# Altium integrated library Library.IntLib: 629 symbols (part 19 of 21)
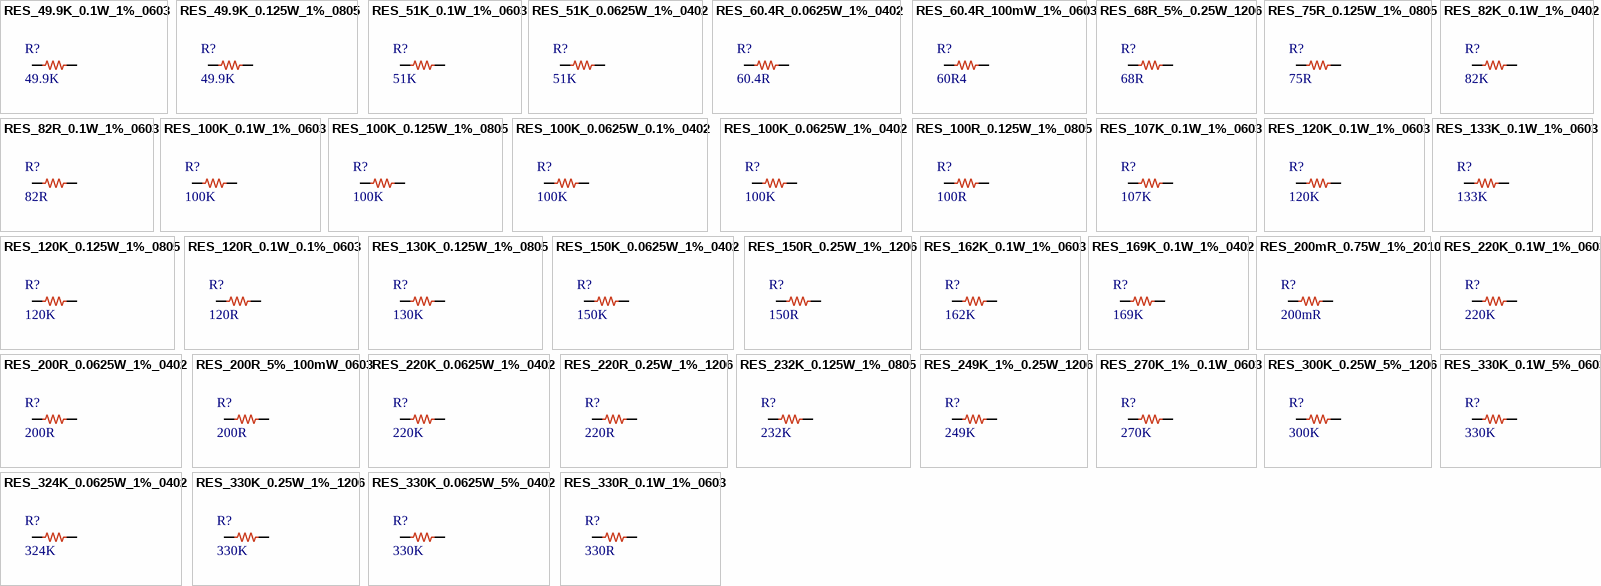
[diagram p36: symbols RES_49.9K_0.1W_1%_0603 to RES_330R_0.1W_1%_0603]

## RES_133K_0.1W_1%_0603
designator R?, comment 133K
Fixed Resistor, Metal Glaze/thick Film, 0.1W, 133000ohm, 75V, 1% +/-Tol, 100ppm/Cel, Surface Mount, 0603; Manufacturer: Yageo; Manufacturer Part Number: RC0603FR-07133KL; Additional Feature: LASER TRIMMABLE; Power: 100mW; Rated Temperature: 70°C; Value: 133kR; Temperature Coefficient: 100ppm/°C; Package Height: 0.45mm; Package Length: 1.6mm; Package Width: 0.8mm; Supplier: Digikey; Supplier Part Number: 311-133KHRCT-ND; RoHS: Yes; Category: Chip SMD Resistors; Stock: 227173; Pricing: 1=0.1, 10=0.02, 50=0.0118, 100=0.0098, 500=0.00656, 1000=0.0056 (USD); Mounting Technology: Surface Mount; Pins: 2; Package Shape: Rectangular; Case/Package: 0603; Terminal Finish: Nickel; Min Operating Temperature: -55°C; Max Operating Temperature: 155°C; Tolerance: 1%; JESD-609 Code: e3; Resistor Type: FIXED RESISTOR; Construction: Chip; Package Style: SMTMeter; Packaging: Tape and Reel; Technology: METAL GLAZE/THICK FILM; Termination: Wraparound; Working Voltage: 75V; Reach SVHC Compliant: Yes; RoHS Compliant: Yes; ComponentLink1URL: https://datasheet.ciiva.com:443/pdfs/VipMasterIC/IC/YAGO/YAGO-S-A0008145938/YAGO-S-A0008145938-1.pdf?src-supplier=IHS+Markit; ComponentLink1Description: https://datasheet.ciiva.com:443/pdfs/VipMasterIC/IC/YAGO/YAGO-S-A0008145938/YAGO-S-A0008145938-1.pdf?src-supplier=IHS+Markit; ComponentLink2URL: https://datasheet.ciiva.com/12558/rc0603-272842-12558909.pdf?src-supplier=Mouser; ComponentLink2Description: https://datasheet.ciiva.com/12558/rc0603-272842-12558909.pdf?src-supplier=Mouser; ComponentLink3URL: https://datasheet.ciiva.com/2491/pyu-r-int-thick-7-2491337.pdf?src-supplier=Digikey; ComponentLink3Description: https://datasheet.ciiva.com/2491/pyu-r-int-thick-7-2491337.pdf?src-supplier=Digikey; ComponentLink4URL: https://datasheet.ciiva.com/2491/pyu-r-int-thick-7-2491338.pdf?src-supplier=Digikey; ComponentLink4Description: https://datasheet.ciiva.com/2491/pyu-r-int-thick-7-2491338.pdf?src-supplier=Digikey; ComponentLink5URL: https://datasheet.ciiva.com/2491/pyu-r-int-thick-7-2491336.pdf?src-supplier=Digikey; ComponentLink5Description: https://datasheet.ciiva.com/2491/pyu-r-int-thick-7-2491336.pdf?src-supplier=Digikey
footprint RES_0603
pins: 1, 2

## RES_150K_0.0625W_1%_0402
designator R?, comment 150K
Fixed Resistor, Metal Glaze/thick Film, 0.0625W, 150000ohm, 50V, 1% +/-Tol, 100ppm/Cel, Surface Mount, 0402; Manufacturer: Yageo; Manufacturer Part Number: RC0402FR-07150KL; Additional Feature: LASER TRIMMABLE; Power: 62.5mW; Rated Temperature: 70°C; Value: 150kR; Temperature Coefficient (ppm/Cel): 100; Package Height: 0.35mm; Package Length: 1mm; Package Width: 0.5mm; Supplier: Rs; Supplier Part Number: 1987665; RoHS: Yes; Category: Chip SMD Resistors; Stock: 18700; Pricing: 100=0.005, 1000=0.004, 2500=0.004, 5000=0.004, 10000=0.004 (EUR); Mounting Technology: Surface Mount; Pins: 2; Package Shape: Rectangular; Case/Package: 0402; Terminal Finish: Nickel; Min Operating Temperature: -55°C; Max Operating Temperature: 155°C; Tolerance: 1%; JESD-609 Code: e3; Resistor Type: FIXED RESISTOR; Construction: Chip; Packaging: Tape and Reel; Technology: METAL GLAZE/THICK FILM; Termination: Wraparound; Working Voltage: 50V; Reach SVHC Compliant: Yes; RoHS Compliant: Yes; ComponentLink1URL: https://datasheet.ciiva.com:443/pdfs/VipMasterIC/IC/YAGO/YAGO-S-A0008145938/YAGO-S-A0008145938-1.pdf?src-supplier=IHS+Markit; ComponentLink1Description: https://datasheet.ciiva.com:443/pdfs/VipMasterIC/IC/YAGO/YAGO-S-A0008145938/YAGO-S-A0008145938-1.pdf?src-supplier=IHS+Markit; ComponentLink2URL: https://datasheet.ciiva.com/2453/pyu-r-int-thick-7-2453603.pdf?src-supplier=Digikey; ComponentLink2Description: https://datasheet.ciiva.com/2453/pyu-r-int-thick-7-2453603.pdf?src-supplier=Digikey; ComponentLink3URL: https://datasheet.ciiva.com/2453/pyu-r-int-thick-7-2453601.pdf?src-supplier=Digikey; ComponentLink3Description: https://datasheet.ciiva.com/2453/pyu-r-int-thick-7-2453601.pdf?src-supplier=Digikey; ComponentLink4URL: https://datasheet.ciiva.com/7849/1018594-7849836.pdf?src-supplier=Element14; ComponentLink4Description: https://datasheet.ciiva.com/7849/1018594-7849836.pdf?src-supplier=Element14; ComponentLink5URL: https://datasheet.ciiva.com/6067/1686128-6067913.pdf?src-supplier=Farnell; ComponentLink5Description: https://datasheet.ciiva.com/6067/1686128-6067913.pdf?src-supplier=Farnell; ComponentLink6URL: https://datasheet.ciiva.com/7983/1018594-7983494.pdf?src-supplier=Element14; ComponentLink6Description: https://datasheet.ciiva.com/7983/1018594-7983494.pdf?src-supplier=Element14
footprint RES_0402
pins: 1, 2

## RES_150R_0.25W_1%_1206
designator R?, comment 150R
Fixed Resistor, Metal Glaze/thick Film, 0.25W, 150ohm, 200V, 1% +/-Tol, 100ppm/Cel, Surface Mount, 1206; Manufacturer: Yageo; Manufacturer Part Number: RC1206FR-07150RL; Additional Feature: LASER TRIMMABLE; Power: 250mW; Rated Temperature: 70°C; Temperature Coefficient (ppm/Cel): 100; Package Height: 0.55mm; Package Length: 3.1mm; Package Width: 1.6mm; Supplier: Farnell; Supplier Part Number: 9240896; RoHS: Yes; Category: Chip SMD Resistors; Stock: 160466; Pricing: 10=0.0149, 100=0.0125, 500=0.0111, 1000=0.0097, 2500=0.0095 (EUR); Mounting Technology: Surface Mount; Pins: 2; Package Shape: Rectangular; Case/Package: 1206; Terminal Finish: Nickel; Min Operating Temperature: -55°C; Max Operating Temperature: 155°C; Tolerance: 1%; JESD-609 Code: e3; Resistor Type: FIXED RESISTOR; Construction: Chip; Packaging: Tape and Reel; Value: 150R; Technology: METAL GLAZE/THICK FILM; Termination: Wraparound; Working Voltage: 200V; Reach SVHC Compliant: Yes; RoHS Compliant: Yes; ComponentLink1URL: https://datasheet.ciiva.com:443/pdfs/VipMasterIC/IC/YAGO/YAGO-S-A0008145938/YAGO-S-A0008145938-1.pdf?src-supplier=IHS+Markit; ComponentLink1Description: https://datasheet.ciiva.com:443/pdfs/VipMasterIC/IC/YAGO/YAGO-S-A0008145938/YAGO-S-A0008145938-1.pdf?src-supplier=IHS+Markit; ComponentLink2URL: https://datasheet.ciiva.com/7857/444357-7857261.pdf?src-supplier=Element14; ComponentLink2Description: https://datasheet.ciiva.com/7857/444357-7857261.pdf?src-supplier=Element14; ComponentLink3URL: https://datasheet.ciiva.com/7857/444357-7857260.pdf?src-supplier=Element14; ComponentLink3Description: https://datasheet.ciiva.com/7857/444357-7857260.pdf?src-supplier=Element14
footprint RES_1206
pins: 1, 2

## RES_162K_0.1W_1%_0603
designator R?, comment 162K
Fixed Resistor, Metal Glaze/thick Film, 0.1W, 162000ohm, 75V, 1% +/-Tol, 100ppm/Cel, Surface Mount, 0603; Manufacturer: Yageo; Manufacturer Part Number: RC0603FR-07162KL; Additional Feature: LASER TRIMMABLE; Power: 100mW; Rated Temperature: 70°C; Value: 162kR; Temperature Coefficient: 100ppm/°C; Package Height: 0.45mm; Package Length: 1.6mm; Package Width: 0.8mm; Supplier: Digikey; Supplier Part Number: 311-162KHRCT-ND; RoHS: Yes; Category: Chip SMD Resistors; Stock: 110580; Pricing: 1=0.1, 10=0.019, 50=0.0112, 100=0.0093, 500=0.00622, 1000=0.00532 (USD); Mounting Technology: Surface Mount; Pins: 2; Package Shape: Rectangular; Case/Package: 0603; Terminal Finish: Nickel; Min Operating Temperature: -55°C; Max Operating Temperature: 155°C; Tolerance: 1%; JESD-609 Code: e3; Resistor Type: FIXED RESISTOR; Construction: Chip; Package Style: SMTMeter; Packaging: Tape and Reel; Technology: METAL GLAZE/THICK FILM; Termination: Wraparound; Working Voltage: 75V; Reach SVHC Compliant: Yes; RoHS Compliant: Yes; ComponentLink1URL: https://datasheet.ciiva.com:443/pdfs/VipMasterIC/IC/YAGO/YAGO-S-A0008145938/YAGO-S-A0008145938-1.pdf?src-supplier=IHS+Markit; ComponentLink1Description: https://datasheet.ciiva.com:443/pdfs/VipMasterIC/IC/YAGO/YAGO-S-A0008145938/YAGO-S-A0008145938-1.pdf?src-supplier=IHS+Markit; ComponentLink2URL: https://datasheet.ciiva.com/11819/0900766b80f96399-11819240.pdf?src-supplier=Rs; ComponentLink2Description: https://datasheet.ciiva.com/11819/0900766b80f96399-11819240.pdf?src-supplier=Rs
footprint RES_0603
pins: 1, 2

## RES_169K_0.1W_1%_0402
designator R?, comment 169K
Fixed Resistor, Metal Glaze/thick Film, 0.1W, 169000ohm, 50V, 1% +/-Tol, 100ppm/Cel, Surface Mount, 0402; Manufacturer: Panasonic; Manufacturer Part Number: ERJ-2RKF1693X; Power: 100mW; Rated Temperature: 70°C; Value: 169kR; Temperature Coefficient (ppm/Cel): 100; Package Height: 0.35mm; Package Length: 1mm; Package Width: 0.5mm; Reference Standard: AEC-Q200; Supplier: Mouser; Supplier Part Number: 667-ERJ-2RKF1693X; RoHS: Yes; Category: Chip SMD Resistors; Stock: 6084; Pricing: 1=0.1, 10=0.023, 50=0.023, 100=0.013, 1000=0.008, 10000=0.005 (USD); Mounting Technology: Surface Mount; Pins: 2; Package Shape: Rectangular; Case/Package: 0402; Terminal Finish: Nickel; Min Operating Temperature: -55°C; Max Operating Temperature: 155°C; Tolerance: 1%; JESD-609 Code: e3; Resistor Type: FIXED RESISTOR; Construction: Rectangular; Packaging: Tape and Reel; Technology: METAL GLAZE/THICK FILM; Termination: Wraparound; Working Voltage: 50V; Reach SVHC Compliant: Yes; RoHS Compliant: Yes; ComponentLink1URL: https://datasheet.ciiva.com:443/pdfs/VipMasterIC/IC/PANA/PANA-S-A0009889626/PANA-S-A0009889626-1.pdf?src-supplier=IHS+Markit; ComponentLink1Description: https://datasheet.ciiva.com:443/pdfs/VipMasterIC/IC/PANA/PANA-S-A0009889626/PANA-S-A0009889626-1.pdf?src-supplier=IHS+Markit; ComponentLink2URL: https://datasheet.ciiva.com/9119/aoa0000ce2-9119289.pdf?src-supplier=Avnet; ComponentLink2Description: https://datasheet.ciiva.com/9119/aoa0000ce2-9119289.pdf?src-supplier=Avnet; ComponentLink3URL: https://datasheet.ciiva.com/30152/aoa0000ce2-30152779.pdf?src-supplier=Onlinecomponents.com; ComponentLink3Description: https://datasheet.ciiva.com/30152/aoa0000ce2-30152779.pdf?src-supplier=Onlinecomponents.com; ComponentLink4URL: https://datasheet.ciiva.com/16781/70260748-16781358.pdf?src-supplier=Allied+Electronics; ComponentLink4Description: https://datasheet.ciiva.com/16781/70260748-16781358.pdf?src-supplier=Allied+Electronics; ComponentLink5URL: https://datasheet.ciiva.com/46388/426256-46388938.pdf?src-supplier=Element14; ComponentLink5Description: https://datasheet.ciiva.com/46388/426256-46388938.pdf?src-supplier=Element14; ComponentLink6URL: https://datasheet.ciiva.com/46377/426256-46377711.pdf?src-supplier=Element14; ComponentLink6Description: https://datasheet.ciiva.com/46377/426256-46377711.pdf?src-supplier=Element14; ComponentLink7URL: https://datasheet.ciiva.com/24071/aoa0000ce2-24071718.pdf?src-supplier=Mouser; ComponentLink7Description: https://datasheet.ciiva.com/24071/aoa0000ce2-24071718.pdf?src-supplier=Mouser; ComponentLink8URL: https://datasheet.ciiva.com/43460/426256-43460342.pdf?src-supplier=Farnell; ComponentLink8Description: https://datasheet.ciiva.com/43460/426256-43460342.pdf?src-supplier=Farnell; ComponentLink9URL: https://datasheet.ciiva.com/5951/426256-5951318.pdf?src-supplier=Farnell; ComponentLink9Description: https://datasheet.ciiva.com/5951/426256-5951318.pdf?src-supplier=Farnell
footprint RES_0402
pins: 1, 2

## RES_200mR_0.75W_1%_2010
designator R?, comment 200mR
Fixed Resistor, Metal Glaze/thick Film, 0.75W, 0.2ohm, 0.387V, 1% +/-Tol, 75ppm/Cel, Surface Mount, 2010; Manufacturer: Yageo; Manufacturer Part Number: PT2010FK-070R2L; Supplier: Mouser; Supplier Part Number: 603-PT2010FK-070R2L; RoHS: Yes; Category: Chip SMD Resistors; Stock: 10779; Pricing: 1=0.59, 10=0.258, 50=0.258, 100=0.139, 1000=0.106, 10000=0.085 (USD); ComponentLink1URL: https://datasheet.ciiva.com:443/pdfs/VipMasterIC/IC/YAGO/YAGO-S-A0005429913/YAGO-S-A0005429913-1.pdf?src-supplier=IHS+Markit; ComponentLink1Description: https://datasheet.ciiva.com:443/pdfs/VipMasterIC/IC/YAGO/YAGO-S-A0005429913/YAGO-S-A0005429913-1.pdf?src-supplier=IHS+Markit; ComponentLink2URL: http://www.mouser.com/ds/2/447/yageodocoutput-1101729.pdf?src-supplier=Mouser; ComponentLink2Description: http://www.mouser.com/ds/2/447/yageodocoutput-1101729.pdf?src-supplier=Mouser; ComponentLink3URL: http://www.yageo.com/documents/recent/PYu-PT-Group_521_RoHS_L-1.pdf?src-supplier=Digikey; ComponentLink3Description: http://www.yageo.com/documents/recent/PYu-PT-Group_521_RoHS_L-1.pdf?src-supplier=Digikey
footprint RES_2010
pins: 1, 2

## RES_200R_0.0625W_1%_0402
designator R?, comment 200R
Fixed Resistor, Metal Glaze/thick Film, 0.0625W, 200ohm, 50V, 5% +/-Tol, 100ppm/Cel, Surface Mount, 0402; Manufacturer: Yageo; Manufacturer Part Number: AF0402JR-07200RL; Additional Feature: ANTI-SULFUR; Power: 62.5mW; Rated Temperature: 70°C; Temperature Coefficient: 100ppm/°C; Package Height: 0.32mm; Package Length: 1mm; Package Width: 0.5mm; Reference Standard: AEC-Q200; Supplier: Future Electronics; Supplier Part Number: 2164590; RoHS: Yes; Category: Chip SMD Resistors; Stock: 10000; Pricing: 10000=0.0014, 50000=0.0013, 200000=0.0012, 500000=0.0012, 1250000=0.0011 (USD); Mounting Technology: Surface Mount; Pins: 2; Case/Package: 0402; Min Operating Temperature: -55°C; Max Operating Temperature: 155°C; Tolerance: 5%; Resistor Type: FIXED RESISTOR; Construction: Rectangular; Package Style: SMTMeter; Packaging: Tape and Reel; Value: 200R; Termination: Wraparound; Working Voltage: 50V; Reach SVHC Compliant: Yes; RoHS Compliant: Yes; ComponentLink1URL: https://datasheet.ciiva.com:443/pdfs/VipMasterIC/IC/YAGO/YAGO-S-A0009016998/YAGO-S-A0009016998-1.pdf?src-supplier=IHS+Markit; ComponentLink1Description: https://datasheet.ciiva.com:443/pdfs/VipMasterIC/IC/YAGO/YAGO-S-A0009016998/YAGO-S-A0009016998-1.pdf?src-supplier=IHS+Markit; ComponentLink2URL: http://www.yageo.com/documents/recent/PYu-AF_51_RoHS_L_5.pdf?src-supplier=Digikey; ComponentLink2Description: http://www.yageo.com/documents/recent/PYu-AF_51_RoHS_L_5.pdf?src-supplier=Digikey
footprint RES_0402
pins: 1, 2

## RES_200R_5%_100mW_0603
designator R?, comment 200R
Anti-Sulfurated Chip Resistor Thick Film 0603 200Ohm 5% Paper T/R; Manufacturer: Yageo; Manufacturer Part Number: AF0603JR-07200RL; Max Power Dissipation: 100mW; Temperature Coefficient: 100ppm/°C; Supplier 1: Digi-Key; RoHS: Yes; Category: Chip SMD Resistors; Stock 1: 4765; Pricing 1: 1=0.1, 10=0.023, 50=0.0146, 100=0.0122, 500=0.00832, 1000=0.00718 (USD); Case/Package: 0603; Min Operating Temperature: -55°C; Max Operating Temperature: 155°C; Packaging: Tape and Reel; Resistance: 200R; Number of Terminations: 2; Tolerance: 5%; Features: Moisture Resistant,Anti-Sulfur; Series: AF; Length: 0.063inch; Width: 0.031inch; Height: 0.022inch; RoHS Compliant: Yes; ComponentLink1URL: http://www.yageo.com/documents/recent/PYu-AF_51_RoHS_L_5.pdf?src-supplier=Digi-Key; ComponentLink1Description: http://www.yageo.com/documents/recent/PYu-AF_51_RoHS_L_5.pdf?src-supplier=Digi-Key; Supplier Part Number 1: 13-AF0603JR-07200RLDKR-ND
footprint RES_0603
pins: 1, 2

## RES_220K_0.1W_1%_0603
designator R?, comment 220K
Fixed Resistor, Metal Glaze/thick Film, 0.1W, 220000ohm, 75V, 1% +/-Tol, 100ppm/Cel, Surface Mount, 0603; Manufacturer: Yageo; Manufacturer Part Number: RC0603FR-07220KL; Additional Feature: LASER TRIMMABLE; Power: 100mW; Rated Temperature: 70°C; Value: 220kR; Temperature Coefficient: 100ppm/°C; Package Height: 0.45mm; Package Length: 1.6mm; Package Width: 0.8mm; Supplier: Future Electronics; Supplier Part Number: 1174606; RoHS: Yes; Category: Chip SMD Resistors; Stock: 2045000; Pricing: 5000=0.0022, 75000=0.002, 100000=0.002, 250000=0.002, 375000=0.0019, 750000=0.0019, 1000000=0.0019, 2500000=0.0017, 3750000=0.0017 (USD); Mounting Technology: Surface Mount; Pins: 2; Package Shape: Rectangular; Case/Package: 0603; Terminal Finish: Nickel; Min Operating Temperature: -55°C; Max Operating Temperature: 155°C; Tolerance: 1%; JESD-609 Code: e3; Resistor Type: FIXED RESISTOR; Construction: Chip; Package Style: SMTMeter; Packaging: Tape and Reel; Technology: METAL GLAZE/THICK FILM; Termination: Wraparound; Working Voltage: 75V; Reach SVHC Compliant: Yes; RoHS Compliant: Yes; ComponentLink1URL: https://datasheet.ciiva.com:443/pdfs/VipMasterIC/IC/YAGO/YAGO-S-A0008145938/YAGO-S-A0008145938-1.pdf?src-supplier=IHS+Markit; ComponentLink1Description: https://datasheet.ciiva.com:443/pdfs/VipMasterIC/IC/YAGO/YAGO-S-A0008145938/YAGO-S-A0008145938-1.pdf?src-supplier=IHS+Markit; ComponentLink2URL: https://datasheet.ciiva.com/11808/0900766b80f96399-11808161.pdf?src-supplier=Rs; ComponentLink2Description: https://datasheet.ciiva.com/11808/0900766b80f96399-11808161.pdf?src-supplier=Rs; ComponentLink3URL: https://datasheet.ciiva.com/46412/443971-46412845.pdf?src-supplier=Element14; ComponentLink3Description: https://datasheet.ciiva.com/46412/443971-46412845.pdf?src-supplier=Element14; ComponentLink4URL: https://datasheet.ciiva.com/2453/pyu-r-int-thick-7-2453965.pdf?src-supplier=Digikey; ComponentLink4Description: https://datasheet.ciiva.com/2453/pyu-r-int-thick-7-2453965.pdf?src-supplier=Digikey; ComponentLink5URL: https://datasheet.ciiva.com/2453/pyu-r-int-thick-7-2453966.pdf?src-supplier=Digikey; ComponentLink5Description: https://datasheet.ciiva.com/2453/pyu-r-int-thick-7-2453966.pdf?src-supplier=Digikey; ComponentLink6URL: https://datasheet.ciiva.com/2453/pyu-r-int-thick-7-2453964.pdf?src-supplier=Digikey; ComponentLink6Description: https://datasheet.ciiva.com/2453/pyu-r-int-thick-7-2453964.pdf?src-supplier=Digikey; ComponentLink7URL: https://datasheet.ciiva.com/7746/443971-7746299.pdf?src-supplier=Element14; ComponentLink7Description: https://datasheet.ciiva.com/7746/443971-7746299.pdf?src-supplier=Element14; ComponentLink8URL: https://datasheet.ciiva.com/7746/443971-7746298.pdf?src-supplier=Element14; ComponentLink8Description: https://datasheet.ciiva.com/7746/443971-7746298.pdf?src-supplier=Element14
footprint RES_0603
pins: 1, 2

## RES_220K_0.0625W_1%_0402
designator R?, comment 220K
Fixed Resistor, Metal Glaze/thick Film, 0.0625W, 220000ohm, 50V, 1% +/-Tol, 100ppm/Cel, Surface Mount, 0402; Manufacturer: Yageo; Manufacturer Part Number: RC0402FR-07220KL; Additional Feature: LASER TRIMMABLE; Power: 62.5mW; Rated Temperature: 70°C; Value: 220kR; Temperature Coefficient: 100ppm/°C; Package Height: 0.35mm; Package Length: 1mm; Package Width: 0.5mm; Supplier: Future Electronics; Supplier Part Number: 3187143; RoHS: Yes; Category: Chip SMD Resistors; Stock: 40000; Pricing: 10000=0.0012, 100000=0.0011, 300000=0.001, 750000=0.001, 2000000=0.0009 (USD); Mounting Technology: Surface Mount; Pins: 2; Package Shape: Rectangular; Case/Package: 0402; Terminal Finish: Nickel; Min Operating Temperature: -55°C; Max Operating Temperature: 155°C; Tolerance: 1%; JESD-609 Code: e3; Resistor Type: FIXED RESISTOR; Packaging: Tape and Reel; Technology: METAL GLAZE/THICK FILM; Termination: Wraparound; Working Voltage: 50V; Construction: Chip; Package Style: SMTMeter; Reach SVHC Compliant: Yes; RoHS Compliant: Yes; ComponentLink1URL: https://datasheet.ciiva.com:443/pdfs/VipMasterIC/IC/YAGO/YAGO-S-A0008145938/YAGO-S-A0008145938-1.pdf?src-supplier=IHS+Markit; ComponentLink1Description: https://datasheet.ciiva.com:443/pdfs/VipMasterIC/IC/YAGO/YAGO-S-A0008145938/YAGO-S-A0008145938-1.pdf?src-supplier=IHS+Markit; ComponentLink2URL: https://datasheet.ciiva.com/5924/1018594-5924944.pdf?src-supplier=Farnell; ComponentLink2Description: https://datasheet.ciiva.com/5924/1018594-5924944.pdf?src-supplier=Farnell; ComponentLink3URL: https://datasheet.ciiva.com/11808/0900766b80c66297-11808792.pdf?src-supplier=Rs; ComponentLink3Description: https://datasheet.ciiva.com/11808/0900766b80c66297-11808792.pdf?src-supplier=Rs; ComponentLink4URL: https://datasheet.ciiva.com/2453/pyu-r-int-thick-7-2453534.pdf?src-supplier=Digikey; ComponentLink4Description: https://datasheet.ciiva.com/2453/pyu-r-int-thick-7-2453534.pdf?src-supplier=Digikey; ComponentLink5URL: https://datasheet.ciiva.com/2453/pyu-r-int-thick-7-2453532.pdf?src-supplier=Digikey; ComponentLink5Description: https://datasheet.ciiva.com/2453/pyu-r-int-thick-7-2453532.pdf?src-supplier=Digikey; ComponentLink6URL: https://datasheet.ciiva.com/12577/pyu-rc0402-51-rohs-l-6-r-12577270.pdf?src-supplier=Mouser; ComponentLink6Description: https://datasheet.ciiva.com/12577/pyu-rc0402-51-rohs-l-6-r-12577270.pdf?src-supplier=Mouser; ComponentLink7URL: https://datasheet.ciiva.com/2453/pyu-r-int-thick-7-2453533.pdf?src-supplier=Digikey; ComponentLink7Description: https://datasheet.ciiva.com/2453/pyu-r-int-thick-7-2453533.pdf?src-supplier=Digikey
footprint RES_0402
pins: 1, 2

## RES_220R_0.25W_1%_1206
designator R?, comment 220R
Fixed Resistor, Metal Glaze/thick Film, 0.25W, 220ohm, 200V, 1% +/-Tol, 100ppm/Cel, Surface Mount, 1206; Manufacturer: Stackpole Electronics; Manufacturer Part Number: RMCF1206FT220R; Power: 250mW; Rated Temperature: 70°C; Temperature Coefficient: 100ppm/°C; Package Height: 0.55mm; Package Length: 3.2mm; Package Width: 1.6mm; Reference Standard: AEC-Q200; Supplier: Digikey; Supplier Part Number: RMCF1206FT220RCT-ND; RoHS: Yes; Category: Chip SMD Resistors; Stock: 575324; Pricing: 1=0.1, 10=0.025, 50=0.0156, 100=0.0129, 500=0.0087, 1000=0.00746 (USD); Mounting Technology: Surface Mount; Pins: 2; Package Shape: Rectangular; Case/Package: 1206; Terminal Finish: Nickel; Min Operating Temperature: -55°C; Max Operating Temperature: 155°C; Tolerance: 1%; JESD-609 Code: e3; Resistor Type: FIXED RESISTOR; Construction: Rectangular; Packaging: Tape and Reel; Value: 220R; Technology: METAL GLAZE/THICK FILM; Termination: Wraparound; Working Voltage: 200V; Reach SVHC Compliant: Yes; RoHS Compliant: Yes; ComponentLink1URL: https://datasheet.ciiva.com:443/pdfs/VipMasterIC/IC/SEIE/SEIE-S-A0009541969/SEIE-S-A0009541969-1.pdf?src-supplier=IHS+Markit; ComponentLink1Description: https://datasheet.ciiva.com:443/pdfs/VipMasterIC/IC/SEIE/SEIE-S-A0009541969/SEIE-S-A0009541969-1.pdf?src-supplier=IHS+Markit; ComponentLink2URL: https://www.seielect.com/catalog/SEI-RMCF_RMCP.pdf?src-supplier=Avnet; ComponentLink2Description: https://www.seielect.com/catalog/SEI-RMCF_RMCP.pdf?src-supplier=Avnet; ComponentLink3URL: https://www.seielect.com/catalog/SEI-Packaging.pdf?src-supplier=Digikey; ComponentLink3Description: https://www.seielect.com/catalog/SEI-Packaging.pdf?src-supplier=Digikey; ComponentLink4URL: https://www.seielect.com/catalog/sei-rmcf_rmcp.pdf?src-supplier=Digikey; ComponentLink4Description: https://www.seielect.com/catalog/sei-rmcf_rmcp.pdf?src-supplier=Digikey; ComponentLink5URL: https://datasheet.octopart.com/RMCF1206FT220R-Stackpole-Electronics-datasheet-141193804.pdf?src-supplier=Future+Electronics; ComponentLink5Description: https://datasheet.octopart.com/RMCF1206FT220R-Stackpole-Electronics-datasheet-141193804.pdf?src-supplier=Future+Electronics; ComponentLink6URL: https://datasheet.octopart.com/RMCF1206FT220R-Stackpole-Electronics-datasheet-155966809.pdf?src-supplier=Master+Electronics; ComponentLink6Description: https://datasheet.octopart.com/RMCF1206FT220R-Stackpole-Electronics-datasheet-155966809.pdf?src-supplier=Master+Electronics
footprint RES_1206
pins: 1, 2

## RES_232K_0.125W_1%_0805
designator R?, comment 232K
Fixed Resistor, Metal Glaze/thick Film, 0.125W, 232000ohm, 150V, 1% +/-Tol, 100ppm/Cel, Surface Mount, 0805; Manufacturer: Yageo; Manufacturer Part Number: RC0805FR-07232KL; Additional Feature: LASER TRIMMABLE; Power: 125mW; Rated Temperature: 70°C; Value: 232kR; Temperature Coefficient: 100ppm/°C; Package Height: 0.5mm; Package Length: 2mm; Package Width: 1.25mm; Supplier: Future Electronics; Supplier Part Number: 5292982; RoHS: Yes; Category: Chip SMD Resistors; Stock: 5000; Pricing: 5000=0.0044, 25000=0.0041, 100000=0.0039, 250000=0.0037, 625000=0.0035 (USD); Mounting Technology: Surface Mount; Pins: 2; Package Shape: Rectangular; Case/Package: 0805; Terminal Finish: Nickel; Min Operating Temperature: -55°C; Max Operating Temperature: 155°C; Tolerance: 1%; JESD-609 Code: e3; Resistor Type: FIXED RESISTOR; Construction: Chip; Package Style: SMTMeter; Packaging: Tape and Reel; Technology: METAL GLAZE/THICK FILM; Termination: Wraparound; Working Voltage: 150V; Reach SVHC Compliant: Yes; RoHS Compliant: Yes; ComponentLink1URL: https://datasheet.ciiva.com:443/pdfs/VipMasterIC/IC/YAGO/YAGO-S-A0008145938/YAGO-S-A0008145938-1.pdf?src-supplier=IHS+Markit; ComponentLink1Description: https://datasheet.ciiva.com:443/pdfs/VipMasterIC/IC/YAGO/YAGO-S-A0008145938/YAGO-S-A0008145938-1.pdf?src-supplier=IHS+Markit; ComponentLink2URL: https://datasheet.ciiva.com/17419/rc0805-17419846.pdf?src-supplier=Future+Electronics; ComponentLink2Description: https://datasheet.ciiva.com/17419/rc0805-17419846.pdf?src-supplier=Future+Electronics; ComponentLink3URL: https://datasheet.ciiva.com/2457/pyu-r-int-thick-7-2457710.pdf?src-supplier=Digikey; ComponentLink3Description: https://datasheet.ciiva.com/2457/pyu-r-int-thick-7-2457710.pdf?src-supplier=Digikey; ComponentLink4URL: https://datasheet.ciiva.com/2457/pyu-r-int-thick-7-2457711.pdf?src-supplier=Digikey; ComponentLink4Description: https://datasheet.ciiva.com/2457/pyu-r-int-thick-7-2457711.pdf?src-supplier=Digikey; ComponentLink5URL: https://datasheet.ciiva.com/2457/pyu-r-int-thick-7-2457712.pdf?src-supplier=Digikey; ComponentLink5Description: https://datasheet.ciiva.com/2457/pyu-r-int-thick-7-2457712.pdf?src-supplier=Digikey
footprint RES_0805
pins: 1, 2

## RES_249K_1%_0.25W_1206
designator R?, comment 249K
Fixed Resistor, Metal Glaze/thick Film, 0.25W, 249000ohm, 200V, 1% +/-Tol, 100ppm/Cel, Surface Mount, 1206; Manufacturer: Bourns; Manufacturer Part Number: CR1206-FX-2493ELF; Power: 250mW; Rated Temperature: 70°C; Value: 249kR; Temperature Coefficient: 100ppm/°C; Package Height: 0.6mm; Package Length: 3.2mm; Package Width: 1.6mm; Supplier: Digikey; Supplier Part Number: 118-CR1206-FX-2493ELFCT-ND; RoHS: Yes; Category: Chip SMD Resistors; Stock: 13814; Pricing: 1=0.1, 10=0.03, 50=0.0192, 100=0.0162, 500=0.01118, 1000=0.00971 (USD); Mounting Technology: Surface Mount; Pins: 2; Package Shape: Rectangular; Case/Package: 1206; Terminal Finish: Nickel; Min Operating Temperature: -55°C; Max Operating Temperature: 155°C; Tolerance: 1%; JESD-609 Code: e3; Resistor Type: FIXED RESISTOR; Construction: Chip; Packaging: Tape and Reel; Technology: RUTHENIUM OXIDE; Termination: Wraparound; Working Voltage: 200V; Reach SVHC Compliant: Yes; RoHS Compliant: Yes; ComponentLink1URL: https://datasheet.ciiva.com:443/pdfs/VipMasterIC/IC/BOUR/BOUR-S-A0009069624/BOUR-S-A0009069624-1.pdf?src-supplier=IHS+Markit; ComponentLink1Description: https://datasheet.ciiva.com:443/pdfs/VipMasterIC/IC/BOUR/BOUR-S-A0009069624/BOUR-S-A0009069624-1.pdf?src-supplier=IHS+Markit; ComponentLink2URL: https://datasheet.ciiva.com/2562/chpreztr-2562141.pdf?src-supplier=Digikey; ComponentLink2Description: https://datasheet.ciiva.com/2562/chpreztr-2562141.pdf?src-supplier=Digikey; ComponentLink3URL: https://datasheet.ciiva.com/9120/chpreztr-9120125.pdf?src-supplier=Avnet; ComponentLink3Description: https://datasheet.ciiva.com/9120/chpreztr-9120125.pdf?src-supplier=Avnet
footprint RES_1206
pins: 1, 2

## RES_270K_1%_0.1W_0603
designator R?, comment 270K
Fixed Resistor, Metal Glaze/thick Film, 0.1W, 270000ohm, 75V, 1% +/-Tol, 100ppm/Cel, Surface Mount, 0603; Manufacturer: Yageo; Manufacturer Part Number: RC0603FR-07270KL; Additional Feature: LASER TRIMMABLE; Power: 100mW; Rated Temperature: 70°C; Value: 270kR; Temperature Coefficient (ppm/Cel): 100; Package Height: 0.45mm; Package Length: 1.6mm; Package Width: 0.8mm; Supplier: Farnell; Supplier Part Number: 9238778; RoHS: Yes; Category: Chip SMD Resistors; Stock: 9988; Pricing: 10=0.0114, 100=0.009, 500=0.0073, 1000=0.0055, 2500=0.0054 (EUR); Mounting Technology: Surface Mount; Pins: 2; Package Shape: Rectangular; Case/Package: 0603; Terminal Finish: Nickel; Min Operating Temperature: -55°C; Max Operating Temperature: 155°C; Tolerance: 1%; JESD-609 Code: e3; Resistor Type: FIXED RESISTOR; Construction: Chip; Packaging: Tape and Reel; Technology: METAL GLAZE/THICK FILM; Termination: Wraparound; Working Voltage: 75V; Reach SVHC Compliant: Yes; RoHS Compliant: Yes; ComponentLink1URL: https://datasheet.ciiva.com:443/pdfs/VipMasterIC/IC/YAGO/YAGO-S-A0008145938/YAGO-S-A0008145938-1.pdf?src-supplier=IHS+Markit; ComponentLink1Description: https://datasheet.ciiva.com:443/pdfs/VipMasterIC/IC/YAGO/YAGO-S-A0008145938/YAGO-S-A0008145938-1.pdf?src-supplier=IHS+Markit; ComponentLink2URL: https://datasheet.ciiva.com/2454/pyu-r-int-thick-7-2454426.pdf?src-supplier=Digikey; ComponentLink2Description: https://datasheet.ciiva.com/2454/pyu-r-int-thick-7-2454426.pdf?src-supplier=Digikey; ComponentLink3URL: https://datasheet.ciiva.com/2454/pyu-r-int-thick-7-2454427.pdf?src-supplier=Digikey; ComponentLink3Description: https://datasheet.ciiva.com/2454/pyu-r-int-thick-7-2454427.pdf?src-supplier=Digikey; ComponentLink4URL: https://datasheet.ciiva.com/2454/pyu-r-int-thick-7-2454428.pdf?src-supplier=Digikey; ComponentLink4Description: https://datasheet.ciiva.com/2454/pyu-r-int-thick-7-2454428.pdf?src-supplier=Digikey
footprint RES_0603
pins: 1, 2

## RES_300K_0.25W_5%_1206
designator R?, comment 300K
Fixed Resistor, Metal Glaze/thick Film, 0.25W, 300000ohm, 200V, 5% +/-Tol, 200ppm/Cel, Surface Mount, 1206; Manufacturer: Panasonic; Manufacturer Part Number: ERJ-8GEYJ304V; Power: 250mW; Rated Temperature: 70°C; Value: 300kR; Temperature Coefficient (ppm/Cel): 200; Package Height: 0.6mm; Package Length: 3.2mm; Package Width: 1.6mm; Reference Standard: AEC-Q200; Supplier: Mouser; Supplier Part Number: 667-ERJ-8GEYJ304V; RoHS: Yes; Category: Chip SMD Resistors; Stock: 67768; Pricing: 1=0.13, 10=0.042, 50=0.042, 100=0.026, 1000=0.022, 10000=0.013 (USD); Mounting Technology: Surface Mount; Pins: 2; Package Shape: Rectangular; Case/Package: 1206; Terminal Finish: Nickel; Min Operating Temperature: -55°C; Max Operating Temperature: 155°C; Tolerance: 5%; JESD-609 Code: e3; Resistor Type: FIXED RESISTOR; Construction: Rectangular; Packaging: Tape and Reel; Technology: METAL GLAZE/THICK FILM; Termination: Wraparound; Working Voltage: 200V; Reach SVHC Compliant: Yes; RoHS Compliant: Yes; ComponentLink1URL: https://datasheet.ciiva.com:443/pdfs/VipMasterIC/IC/PANA/PANA-S-A0009891627/PANA-S-A0009891627-1.pdf?src-supplier=IHS+Markit; ComponentLink1Description: https://datasheet.ciiva.com:443/pdfs/VipMasterIC/IC/PANA/PANA-S-A0009891627/PANA-S-A0009891627-1.pdf?src-supplier=IHS+Markit; ComponentLink2URL: http://www.mouser.com/ds/2/315/AOA0000C84-947596.pdf?src-supplier=Mouser; ComponentLink2Description: http://www.mouser.com/ds/2/315/AOA0000C84-947596.pdf?src-supplier=Mouser; ComponentLink3URL: http://components.arrow.com/part/dataview/3982801S2090367N1386?src-supplier=Arrow+Electronics; ComponentLink3Description: http://components.arrow.com/part/dataview/3982801S2090367N1386?src-supplier=Arrow+Electronics; ComponentLink4URL: http://industrial.panasonic.com/www-data/pdf/AOA0000/AOA0000CE1.pdf?src-supplier=Avnet; ComponentLink4Description: http://industrial.panasonic.com/www-data/pdf/AOA0000/AOA0000CE1.pdf?src-supplier=Avnet; ComponentLink5URL: http://industrial.panasonic.com/www-cgi/jvcr13pz.cgi?E+PZ+3+AOA0001+ERJ8GEYJ304V+7+WW?src-supplier=Digikey; ComponentLink5Description: http://industrial.panasonic.com/www-cgi/jvcr13pz.cgi?E+PZ+3+AOA0001+ERJ8GEYJ304V+7+WW?src-supplier=Digikey; ComponentLink6URL: http://www.onlinecomponents.com/datasheet/erj-8geyj304v.aspx?p=44460988&src-supplier=Onlinecomponents.com; ComponentLink6Description: http://www.onlinecomponents.com/datasheet/erj-8geyj304v.aspx?p=44460988&src-supplier=Onlinecomponents.com; ComponentLink7URL: https://datasheet.octopart.com/ERJ-8GEYJ304V-Panasonic-datasheet-154766171.pdf?src-supplier=Master+Electronics; ComponentLink7Description: https://datasheet.octopart.com/ERJ-8GEYJ304V-Panasonic-datasheet-154766171.pdf?src-supplier=Master+Electronics
footprint RES_1206
pins: 1, 2

## RES_324K_0.0625W_1%_0402
designator R?, comment 324K
Fixed Resistor, Metal Glaze/thick Film, 0.0625W, 324000ohm, 50V, 1% +/-Tol, 100ppm/Cel, Surface Mount, 0402; Manufacturer: Yageo; Manufacturer Part Number: RC0402FR-07324KL; Additional Feature: LASER TRIMMABLE; Power: 62.5mW; Rated Temperature: 70°C; Value: 324kR; Temperature Coefficient: 100ppm/°C; Package Height: 0.35mm; Package Length: 1mm; Package Width: 0.5mm; Supplier: Future Electronics; Supplier Part Number: 1280062; RoHS: Yes; Category: Chip SMD Resistors; Stock: 200000; Pricing: 10000=0.0012, 100000=0.0011, 300000=0.001, 750000=0.001, 2000000=0.0009 (USD); Mounting Technology: Surface Mount; Pins: 2; Package Shape: Rectangular; Case/Package: 0402; Terminal Finish: Nickel; Min Operating Temperature: -55°C; Max Operating Temperature: 155°C; Tolerance: 1%; JESD-609 Code: e3; Resistor Type: FIXED RESISTOR; Construction: Chip; Package Style: SMTMeter; Packaging: Tape and Reel; Technology: METAL GLAZE/THICK FILM; Termination: Wraparound; Working Voltage: 50V; Reach SVHC Compliant: Yes; RoHS Compliant: Yes; ComponentLink1URL: https://datasheet.ciiva.com:443/pdfs/VipMasterIC/IC/YAGO/YAGO-S-A0008145938/YAGO-S-A0008145938-1.pdf?src-supplier=IHS+Markit; ComponentLink1Description: https://datasheet.ciiva.com:443/pdfs/VipMasterIC/IC/YAGO/YAGO-S-A0008145938/YAGO-S-A0008145938-1.pdf?src-supplier=IHS+Markit; ComponentLink2URL: https://datasheet.ciiva.com/12558/pyu-rc0402-51-rohs-l-6-r-8721-12558812.pdf?src-supplier=Mouser; ComponentLink2Description: https://datasheet.ciiva.com/12558/pyu-rc0402-51-rohs-l-6-r-8721-12558812.pdf?src-supplier=Mouser; ComponentLink3URL: https://datasheet.ciiva.com/17423/pyu-rc0402-51-rohs-l-6-r-17423869.pdf?src-supplier=Future+Electronics; ComponentLink3Description: https://datasheet.ciiva.com/17423/pyu-rc0402-51-rohs-l-6-r-17423869.pdf?src-supplier=Future+Electronics
footprint RES_0402
pins: 1, 2

## RES_330K_0.1W_5%_0603
designator R?, comment 330K
Res Anti-Sulfurated Thick Film 0603 330k Ohm 5% 1/10W ±150ppm/°C Molded SMD Paper T/R; Manufacturer: Yageo; Manufacturer Part Number: AC0603JR-07330KL; Power Rating: 100mW; Resistance: 330kR; Voltage Rating: 50V; Temperature Coefficient: 100ppm/°C; Supplier 1: Digi-Key; RoHS: Yes; Category: Chip SMD Resistors; Stock 1: 5000; Pricing 1: 1=0.1, 10=0.019, 50=0.0118, 100=0.0098, 500=0.00656, 1000=0.0056 (USD); Case/Package: 0603; Case Code (Imperial): 0603; Case Code (Metric): 1608; Min Operating Temperature: -55°C; Max Operating Temperature: 155°C; Packaging: Tape and Reel; Tolerance: 5%; Number of Terminations: 2; Termination: SMD/SMT; Max Power Dissipation: 100mW; Features: Moisture Resistant,Automotive AEC-Q200; Series: AC; Length: 1.6mm; Width: 0.8mm; Height: 0.45mm; Ratings: AEC-Q200; RoHS Compliant: Yes; ComponentLink1URL: http://www.mouser.com/ds/2/447/yageodocoutput-1111992.pdf?src-supplier=Mouser; ComponentLink1Description: http://www.mouser.com/ds/2/447/yageodocoutput-1111992.pdf?src-supplier=Mouser; ComponentLink2URL: https://www.yageo.com/upload/media/product/productsearch/datasheet/rchip/PYu-AC_51_RoHS_L_7.pdf?src-supplier=Digi-Key; ComponentLink2Description: https://www.yageo.com/upload/media/product/productsearch/datasheet/rchip/PYu-AC_51_RoHS_L_7.pdf?src-supplier=Digi-Key; Supplier Part Number 1: YAG3663CT-ND
footprint RES_0603
pins: 1, 2

## RES_330K_0.25W_1%_1206
designator R?, comment 330K
Fixed Resistor, Metal Glaze/thick Film, 0.25W, 330000ohm, 200V, 1% +/-Tol, 100ppm/Cel, Surface Mount, 1206; Manufacturer: Yageo; Manufacturer Part Number: RC1206FR-07330KL; Additional Feature: LASER TRIMMABLE; Power: 250mW; Rated Temperature: 70°C; Value: 330kR; Temperature Coefficient: 100ppm/°C; Package Height: 0.55mm; Package Length: 3.1mm; Package Width: 1.6mm; Supplier: Future Electronics; Supplier Part Number: 7464688; RoHS: Yes; Category: Chip SMD Resistors; Stock: 595000; Pricing: 5000=0.0036, 20000=0.0035, 75000=0.0033, 200000=0.0032, 500000=0.0031 (USD); Mounting Technology: Surface Mount; Pins: 2; Package Shape: Rectangular; Case/Package: 1206; Terminal Finish: Nickel; Min Operating Temperature: -55°C; Max Operating Temperature: 155°C; Tolerance: 1%; JESD-609 Code: e3; Resistor Type: FIXED RESISTOR; Construction: Chip; Packaging: Tape and Reel; Technology: METAL GLAZE/THICK FILM; Termination: Wraparound; Working Voltage: 200V; Reach SVHC Compliant: Yes; RoHS Compliant: Yes; ComponentLink1URL: https://datasheet.ciiva.com:443/pdfs/VipMasterIC/IC/YAGO/YAGO-S-A0008145938/YAGO-S-A0008145938-1.pdf?src-supplier=IHS+Markit; ComponentLink1Description: https://datasheet.ciiva.com:443/pdfs/VipMasterIC/IC/YAGO/YAGO-S-A0008145938/YAGO-S-A0008145938-1.pdf?src-supplier=IHS+Markit; ComponentLink2URL: https://datasheet.ciiva.com/11809/0900766b80c6630a-11809517.pdf?src-supplier=Rs; ComponentLink2Description: https://datasheet.ciiva.com/11809/0900766b80c6630a-11809517.pdf?src-supplier=Rs; ComponentLink3URL: https://datasheet.ciiva.com/5990/1686128-5990172.pdf?src-supplier=Farnell; ComponentLink3Description: https://datasheet.ciiva.com/5990/1686128-5990172.pdf?src-supplier=Farnell; ComponentLink4URL: https://datasheet.ciiva.com/16746/pyu-rc1206-51-rohs-l-4-16746987.pdf?src-supplier=Future+Electronics; ComponentLink4Description: https://datasheet.ciiva.com/16746/pyu-rc1206-51-rohs-l-4-16746987.pdf?src-supplier=Future+Electronics; ComponentLink5URL: https://datasheet.ciiva.com/7857/444357-7857327.pdf?src-supplier=Element14; ComponentLink5Description: https://datasheet.ciiva.com/7857/444357-7857327.pdf?src-supplier=Element14
footprint RES_1206
pins: 1, 2

## RES_330K_0.0625W_5%_0402
designator R?, comment 330K
Fixed Resistor, Metal Glaze/thick Film, 0.0625W, 330000ohm, 50V, 5% +/-Tol, 100ppm/Cel, Surface Mount, 0402; Manufacturer: Yageo; Manufacturer Part Number: AC0402JR-07330KL; Additional Feature: LASER TRIMMABLE; Power: 62.5mW; Rated Temperature: 70°C; Value: 330kR; Temperature Coefficient: 100ppm/°C; Package Height: 0.32mm; Package Length: 1mm; Package Width: 0.5mm; Reference Standard: AEC-Q200; Supplier: Avnet; Supplier Part Number: 59AK3041; RoHS: Yes; Category: Chip SMD Resistors; Stock: 14975; Pricing: 1=0.104, 25=0.011, 100=0.006, 500=0.005 (USD); Mounting Technology: Surface Mount; Pins: 2; Package Shape: Rectangular; Case/Package: 0402; Terminal Finish: Nickel; Min Operating Temperature: -55°C; Max Operating Temperature: 155°C; Tolerance: 5%; JESD-609 Code: e3; Resistor Type: FIXED RESISTOR; Construction: Chip; Package Style: SMTMeter; Packaging: Tape and Reel; Technology: METAL GLAZE/THICK FILM; Termination: Wraparound; Working Voltage: 50V; Reach SVHC Compliant: Yes; RoHS Compliant: Yes; ComponentLink1URL: https://datasheet.ciiva.com:443/pdfs/VipMasterIC/IC/YAGO/YAGO-S-A0003597364/YAGO-S-A0003597364-1.pdf?src-supplier=IHS+Markit; ComponentLink1Description: https://datasheet.ciiva.com:443/pdfs/VipMasterIC/IC/YAGO/YAGO-S-A0003597364/YAGO-S-A0003597364-1.pdf?src-supplier=IHS+Markit; ComponentLink2URL: http://www.yageo.com/NewPortal/yageodocoutput?fileName=/pdf/R-Chip/PYu-AC_51_RoHS_L_6.pdf&src-supplier=Digikey; ComponentLink2Description: http://www.yageo.com/NewPortal/yageodocoutput?fileName=/pdf/R-Chip/PYu-AC_51_RoHS_L_6.pdf&src-supplier=Digikey; ComponentLink3URL: https://www.yageo.com/upload/media/product/productsearch/datasheet/rchip/PYu-AC_51_RoHS_L_7.pdf?src-supplier=Digikey; ComponentLink3Description: https://www.yageo.com/upload/media/product/productsearch/datasheet/rchip/PYu-AC_51_RoHS_L_7.pdf?src-supplier=Digikey
footprint RES_0402
pins: 1, 2

## RES_330R_0.1W_1%_0603
designator R?, comment 330R
Fixed Resistor, Metal Glaze/thick Film, 0.1W, 330ohm, 75V, 1% +/-Tol, 100ppm/Cel, Surface Mount, 0603; Manufacturer: Yageo; Manufacturer Part Number: RC0603FR-13330RL; Additional Feature: LASER TRIMMABLE; Power: 100mW; Rated Temperature: 70°C; Temperature Coefficient: 100ppm/°C; Package Height: 0.45mm; Package Length: 1.6mm; Package Width: 0.8mm; Supplier: Digi-Key; Supplier Part Number: 13-RC0603FR-13330RLCT-ND; RoHS: Yes; Category: Chip SMD Resistors; Stock: 32231; Pricing: 1=0.1, 10=0.019, 50=0.0112, 100=0.0093, 500=0.00622, 1000=0.00532, 5000=0.00382, 10000=0.00335 (USD); Mounting Technology: Surface Mount; Pins: 2; Package Shape: Rectangular; Case/Package: 0603; Terminal Finish: Nickel; Min Operating Temperature: -55°C; Max Operating Temperature: 155°C; Tolerance: 1%; JESD-609 Code: e3; Resistor Type: FIXED RESISTOR; Construction: Chip; Package Style: SMTMeter; Packaging: Tape and Reel; Value: 330R; Technology: METAL GLAZE/THICK FILM; Termination: Wraparound; Working Voltage: 75V; Reach SVHC Compliant: Yes; RoHS Compliant: Yes; ComponentLink1URL: https://datasheet.ciiva.com:443/pdfs/VipMasterIC/IC/YAGO/YAGO-S-A0008145938/YAGO-S-A0008145938-1.pdf?src-supplier=IHS+Markit; ComponentLink1Description: https://datasheet.ciiva.com:443/pdfs/VipMasterIC/IC/YAGO/YAGO-S-A0008145938/YAGO-S-A0008145938-1.pdf?src-supplier=IHS+Markit; ComponentLink2URL: https://datasheet.ciiva.com/12561/rc0603-272842-12561430.pdf?src-supplier=Mouser; ComponentLink2Description: https://datasheet.ciiva.com/12561/rc0603-272842-12561430.pdf?src-supplier=Mouser
footprint RES_0603
pins: 1, 2

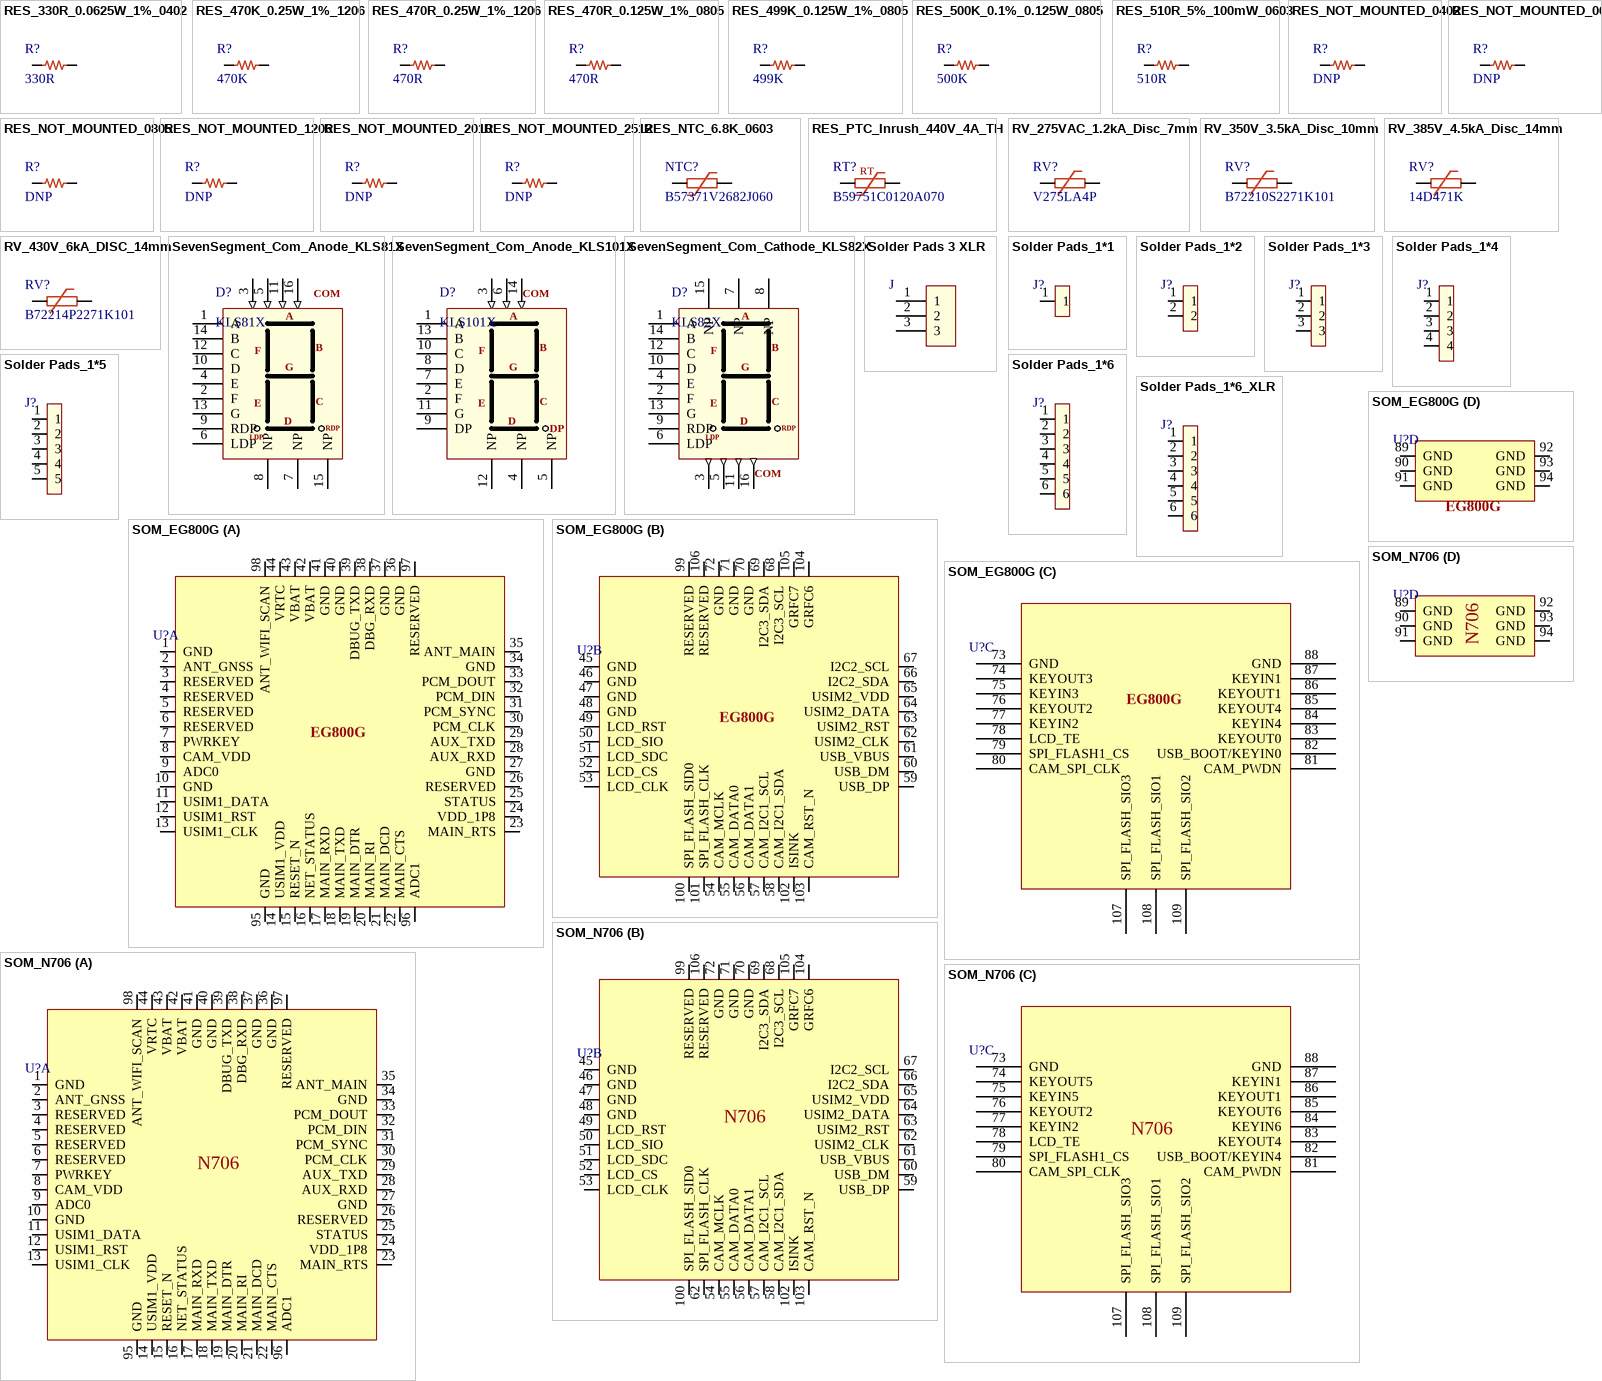
[diagram p16: symbols RES_330R_0.0625W_1%_0402 to SOM_N706]

## RES_330R_0.0625W_1%_0402
designator R?, comment 330R
Fixed Resistor, Metal Glaze/thick Film, 0.0625W, 330ohm, 50V, 1% +/-Tol, 100ppm/Cel, Surface Mount, 0402; Manufacturer: Yageo; Manufacturer Part Number: RC0402FR-13330RL; Additional Feature: LASER TRIMMABLE; Power: 62.5mW; Rated Temperature: 70°C; Temperature Coefficient: 100ppm/°C; Package Height: 0.35mm; Package Length: 1mm; Package Width: 0.5mm; Supplier: Digikey; Supplier Part Number: 13-RC0402FR-13330RLCT-ND; RoHS: Yes; Category: Chip SMD Resistors; Stock: 213118; Pricing: 1=0.1, 10=0.015, 50=0.0088, 100=0.0073, 500=0.00488, 1000=0.00417, 5000=0.00297, 10000=0.00261 (USD); Mounting Technology: Surface Mount; Pins: 2; Package Shape: Rectangular; Case/Package: 0402; Terminal Finish: Nickel; Min Operating Temperature: -55°C; Max Operating Temperature: 155°C; Tolerance: 1%; JESD-609 Code: e3; Resistor Type: FIXED RESISTOR; Construction: Chip; Package Style: SMTMeter; Packaging: Tape and Reel; Value: 330R; Technology: METAL GLAZE/THICK FILM; Termination: Wraparound; Working Voltage: 50V; Reach SVHC Compliant: Yes; RoHS Compliant: Yes; ComponentLink1URL: https://datasheet.ciiva.com:443/pdfs/VipMasterIC/IC/YAGO/YAGO-S-A0008145938/YAGO-S-A0008145938-1.pdf?src-supplier=IHS+Markit; ComponentLink1Description: https://datasheet.ciiva.com:443/pdfs/VipMasterIC/IC/YAGO/YAGO-S-A0008145938/YAGO-S-A0008145938-1.pdf?src-supplier=IHS+Markit; ComponentLink2URL: https://datasheet.ciiva.com/8886/pyu-rc0402-51-rohs-l-6-8886159.pdf?src-supplier=Avnet; ComponentLink2Description: https://datasheet.ciiva.com/8886/pyu-rc0402-51-rohs-l-6-8886159.pdf?src-supplier=Avnet
footprint RES_0402
pins: 1, 2

## RES_470K_0.25W_1%_1206
designator R?, comment 470K
Fixed Resistor, Metal Glaze/thick Film, 0.25W, 470000ohm, 200V, 1% +/-Tol, 100ppm/Cel, Surface Mount, 1206; Manufacturer: Yageo; Manufacturer Part Number: RC1206FR-07470KL; Additional Feature: LASER TRIMMABLE; Power: 250mW; Rated Temperature: 70°C; Value: 470kR; Temperature Coefficient: 100ppm/°C; Package Height: 0.55mm; Package Length: 3.1mm; Package Width: 1.6mm; Supplier: Rs; Supplier Part Number: 1988405P; RoHS: Yes; Category: Chip SMD Resistors; Stock: 3200; Pricing: 1000=0.011, 2500=0.009, 5000=0.007, 10000=0.006 (EUR); Mounting Technology: Surface Mount; Pins: 2; Package Shape: Rectangular; Case/Package: 1206; Terminal Finish: Nickel; Min Operating Temperature: -55°C; Max Operating Temperature: 155°C; Tolerance: 1%; JESD-609 Code: e3; Resistor Type: FIXED RESISTOR; Construction: Chip; Packaging: Tape and Reel; Technology: METAL GLAZE/THICK FILM; Termination: Wraparound; Working Voltage: 200V; Reach SVHC Compliant: Yes; RoHS Compliant: Yes; ComponentLink1URL: https://datasheet.ciiva.com:443/pdfs/VipMasterIC/IC/YAGO/YAGO-S-A0008145938/YAGO-S-A0008145938-1.pdf?src-supplier=IHS+Markit; ComponentLink1Description: https://datasheet.ciiva.com:443/pdfs/VipMasterIC/IC/YAGO/YAGO-S-A0008145938/YAGO-S-A0008145938-1.pdf?src-supplier=IHS+Markit; ComponentLink2URL: https://datasheet.ciiva.com/11808/0900766b80c6630a-11808977.pdf?src-supplier=Rs; ComponentLink2Description: https://datasheet.ciiva.com/11808/0900766b80c6630a-11808977.pdf?src-supplier=Rs; ComponentLink3URL: https://datasheet.ciiva.com/7660/38692-7660805.pdf?src-supplier=Element14; ComponentLink3Description: https://datasheet.ciiva.com/7660/38692-7660805.pdf?src-supplier=Element14; ComponentLink4URL: https://datasheet.ciiva.com/2521/pyu-rc1206-51-rohs-l-4-2521139.pdf?src-supplier=Digikey; ComponentLink4Description: https://datasheet.ciiva.com/2521/pyu-rc1206-51-rohs-l-4-2521139.pdf?src-supplier=Digikey; ComponentLink5URL: https://datasheet.ciiva.com/2521/pyu-rc1206-51-rohs-l-4-2521140.pdf?src-supplier=Digikey; ComponentLink5Description: https://datasheet.ciiva.com/2521/pyu-rc1206-51-rohs-l-4-2521140.pdf?src-supplier=Digikey; ComponentLink6URL: https://datasheet.ciiva.com/2521/pyu-rc1206-51-rohs-l-4-2521141.pdf?src-supplier=Digikey; ComponentLink6Description: https://datasheet.ciiva.com/2521/pyu-rc1206-51-rohs-l-4-2521141.pdf?src-supplier=Digikey; ComponentLink7URL: https://datasheet.ciiva.com/7857/444357-7857355.pdf?src-supplier=Element14; ComponentLink7Description: https://datasheet.ciiva.com/7857/444357-7857355.pdf?src-supplier=Element14; ComponentLink8URL: https://datasheet.ciiva.com/7857/444357-7857356.pdf?src-supplier=Element14; ComponentLink8Description: https://datasheet.ciiva.com/7857/444357-7857356.pdf?src-supplier=Element14
footprint RES_1206
pins: 1, 2

## RES_470R_0.25W_1%_1206
designator R?, comment 470R
Fixed Resistor, Metal Glaze/thick Film, 0.25W, 470ohm, 200V, 1% +/-Tol, 100ppm/Cel, Surface Mount, 1206; Manufacturer: Yageo; Manufacturer Part Number: RC1206FR-07470RL; Additional Feature: LASER TRIMMABLE; Power: 250mW; Rated Temperature: 70°C; Temperature Coefficient (ppm/Cel): 100; Package Height: 0.55mm; Package Length: 3.1mm; Package Width: 1.6mm; Supplier: Farnell; Supplier Part Number: 9240926; RoHS: Yes; Category: Chip SMD Resistors; Stock: 6043; Pricing: 10=0.0251, 100=0.0191, 500=0.0152, 1000=0.0106, 2500=0.0104 (EUR); Mounting Technology: Surface Mount; Pins: 2; Package Shape: Rectangular; Case/Package: 1206; Terminal Finish: Nickel; Min Operating Temperature: -55°C; Max Operating Temperature: 155°C; Tolerance: 1%; JESD-609 Code: e3; Resistor Type: FIXED RESISTOR; Construction: Chip; Packaging: Tape and Reel; Value: 470R; Technology: METAL GLAZE/THICK FILM; Termination: Wraparound; Working Voltage: 200V; Reach SVHC Compliant: Yes; RoHS Compliant: Yes; ComponentLink1URL: https://datasheet.ciiva.com:443/pdfs/VipMasterIC/IC/YAGO/YAGO-S-A0008145938/YAGO-S-A0008145938-1.pdf?src-supplier=IHS+Markit; ComponentLink1Description: https://datasheet.ciiva.com:443/pdfs/VipMasterIC/IC/YAGO/YAGO-S-A0008145938/YAGO-S-A0008145938-1.pdf?src-supplier=IHS+Markit; ComponentLink2URL: http://www.farnell.com/datasheets/1836115.pdf?src-supplier=Farnell; ComponentLink2Description: http://www.farnell.com/datasheets/1836115.pdf?src-supplier=Farnell; ComponentLink3URL: http://www.farnell.com/datasheets/2167052.pdf?src-supplier=Farnell; ComponentLink3Description: http://www.farnell.com/datasheets/2167052.pdf?src-supplier=Farnell; ComponentLink4URL: http://www.yageo.com/documents/recent/PYu-RC_Group_51_RoHS_L_9.pdf?src-supplier=Digikey; ComponentLink4Description: http://www.yageo.com/documents/recent/PYu-RC_Group_51_RoHS_L_9.pdf?src-supplier=Digikey; ComponentLink5URL: http://www.yageo.com/documents/recent/PYu-RC_Group_51_RoHS_L_10.pdf?src-supplier=Digikey; ComponentLink5Description: http://www.yageo.com/documents/recent/PYu-RC_Group_51_RoHS_L_10.pdf?src-supplier=Digikey
footprint RES_1206
pins: 1, 2